# EAGLE library part MOLEX_SL_26 (library molex-sl-connectors_jw)
Molex SL-Series PCB Header, 26-Pos, 0.1" (2.54mm) Centers
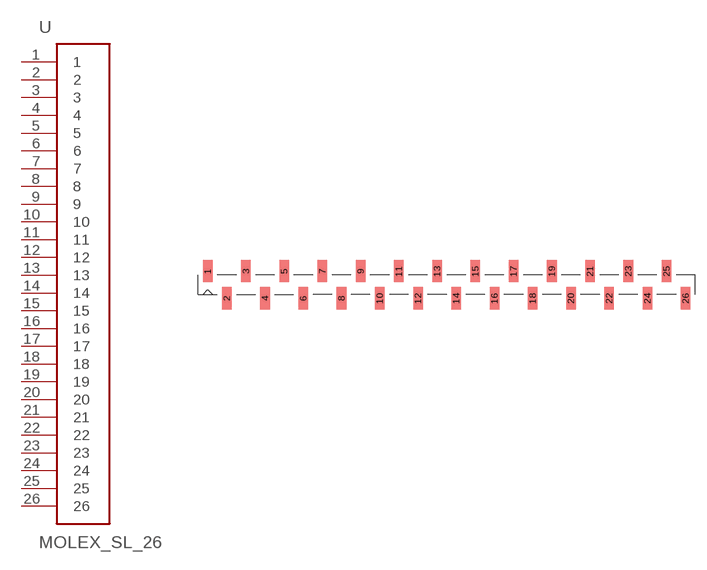
[diagram p20: symbol with the pads of SL_87898_26; footprint SL_87898_26]

Designator prefix -

## MOLEX_SL_26-87898  [SL_87898_26]
1  1
2  2
3  3
4  4
5  5
6  6
7  7
8  8
9  9
10  10
11  11
12  12
13  13
14  14
15  15
16  16
17  17
18  18
19  19
20  20
21  21
22  22
23  23
24  24
25  25
26  26

## Footprint SL_87898_26 (pad centres in mm)
SMD Vertical Header (no latch or pegs) Package also includes Pick-N-Place Cap Tube packaging w/o Pick-N-Place Cap: 87898-2621 87898-2622 87898-2624 87898-2625 87898-2626 Tube packaging w/ Pick-N-Place Cap: 87898-2631 87898-2632 87898-2634 87898-2635 87898-2636
smd 1.27 x 2.946: 1 -31.75,1.803; 2 -29.21,-1.803; 3 -26.67,1.803; 4 -24.13,-1.803; 5 -21.59,1.803; 6 -19.05,-1.803; 7 -16.51,1.803; 8 -13.97,-1.803; 9 -11.43,1.803; 10 -8.89,-1.803; 11 -6.35,1.803; 12 -3.81,-1.803; 13 -1.27,1.803; 14 1.27,-1.803; 15 3.81,1.803; 16 6.35,-1.803; 17 8.89,1.803; 18 11.43,-1.803; 19 13.97,1.803; 20 16.51,-1.803; 21 19.05,1.803; 22 21.59,-1.803; 23 24.13,1.803; 24 26.67,-1.803; 25 29.21,1.803; 26 31.75,-1.803